# EAGLE library part BC08J (library dec-con)
BC08J compatible bus connector
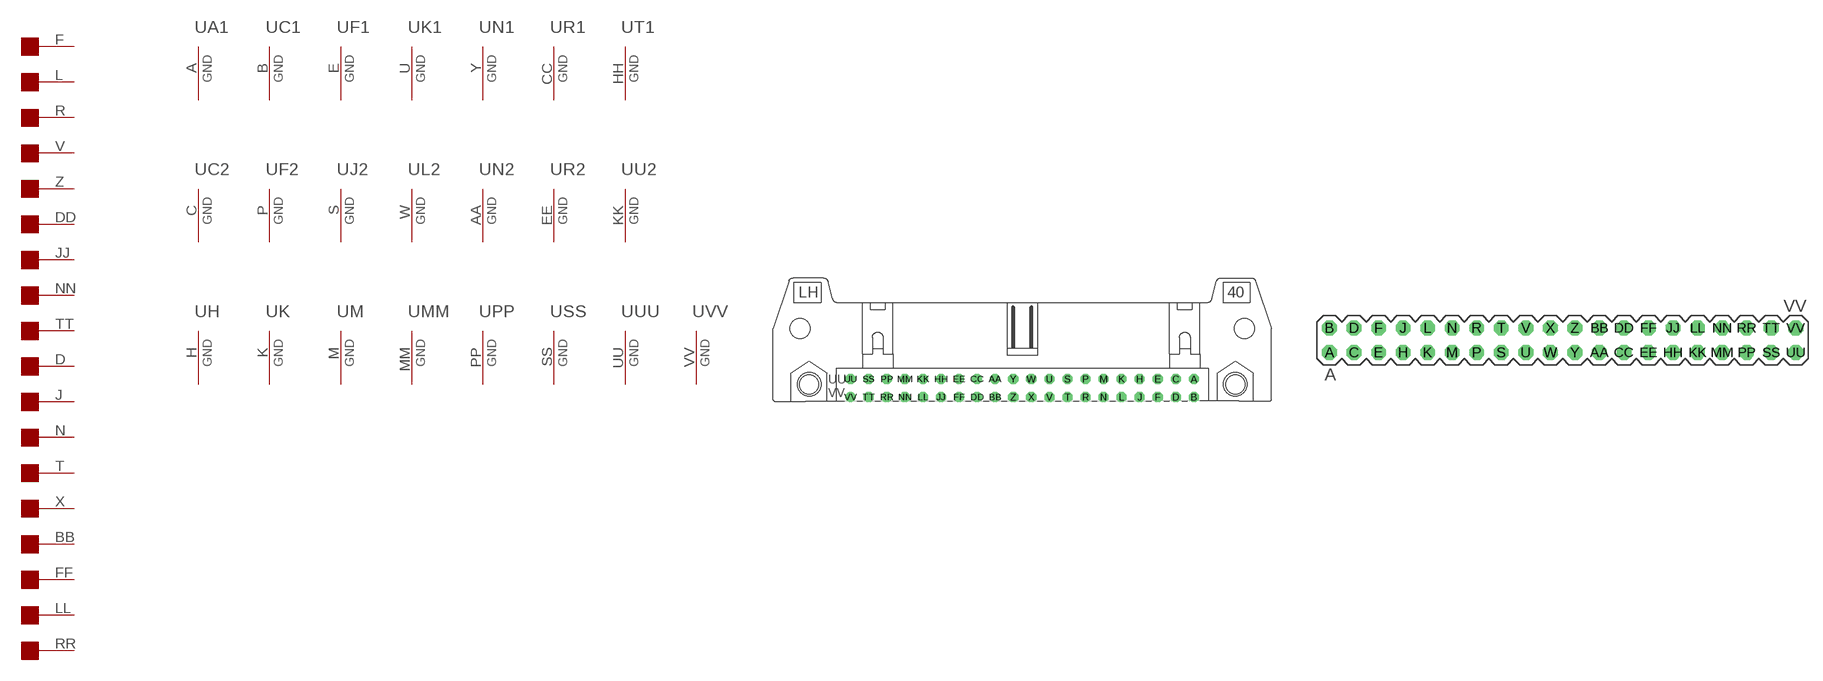
[diagram p35: symbol with the pads of DEC40PINH; footprints DEC40PINH, DEC40PINV]

Designator prefix -; gates D2=EDGE-RIGHT E2=EDGE-RIGHT H2=EDGE-RIGHT K2=EDGE-RIGHT M2=EDGE-RIGHT P2=EDGE-RIGHT S2=EDGE-RIGHT T2=EDGE-RIGHT V2=EDGE-RIGHT B1=EDGE-RIGHT D1=EDGE-RIGHT E1=EDGE-RIGHT H1=EDGE-RIGHT J1=EDGE-RIGHT L1=EDGE-RIGHT M1=EDGE-RIGHT P1=EDGE-RIGHT S1=EDGE-RIGHT A1=GND C1=GND F1=GND K1=GND N1=GND R1=GND T1=GND C2=GND F2=GND J2=GND L2=GND N2=GND R2=GND U2=GND H=GND K=GND M=GND MM=GND PP=GND SS=GND UU=GND VV=GND

## BC08JH  [DEC40PINH]
A  A1:GND  pwr
AA  N2:GND  pwr
B  C1:GND  pwr
BB  L1:1  pas
C  C2:GND  pwr
CC  R1:GND  pwr
D  B1:1  pas
DD  P2:1  pas
E  F1:GND  pwr
EE  R2:GND  pwr
F  D2:1  pas
FF  M1:1  pas
H  H:GND  pwr
HH  T1:GND  pwr
J  D1:1  pas
JJ  S2:1  pas
K  K:GND  pwr
KK  U2:GND  pwr
L  E2:1  pas
LL  P1:1  pas
M  M:GND  pwr
MM  MM:GND  pwr
N  E1:1  pas
NN  T2:1  pas
P  F2:GND  pwr
PP  PP:GND  pwr
R  H2:1  pas
RR  S1:1  pas
S  J2:GND  pwr
SS  SS:GND  pwr
T  H1:1  pas
TT  V2:1  pas
U  K1:GND  pwr
UU  UU:GND  pwr
V  K2:1  pas
VV  VV:GND  pwr
W  L2:GND  pwr
X  J1:1  pas
Y  N1:GND  pwr
Z  M2:1  pas

## BC08J  [DEC40PINV]
Pads as for DEC40PINH

## Footprint DEC40PINH (pad centres in mm)
CONNECTOR
drill 0.914 octagon: A 24.13,1.27; AA -3.81,1.27; B 24.13,-1.27; BB -3.81,-1.27; C 21.59,1.27; CC -6.35,1.27; D 21.59,-1.27; DD -6.35,-1.27; E 19.05,1.27; EE -8.89,1.27; F 19.05,-1.27; FF -8.89,-1.27; H 16.51,1.27; HH -11.43,1.27; J 16.51,-1.27; JJ -11.43,-1.27; K 13.97,1.27; KK -13.97,1.27; L 13.97,-1.27; LL -13.97,-1.27; M 11.43,1.27; MM -16.51,1.27; N 11.43,-1.27; NN -16.51,-1.27; P 8.89,1.27; PP -19.05,1.27; R 8.89,-1.27; RR -19.05,-1.27; S 6.35,1.27; SS -21.59,1.27; T 6.35,-1.27; TT -21.59,-1.27; U 3.81,1.27; UU -24.13,1.27; V 3.81,-1.27; W 1.27,1.27; X 1.27,-1.27; Y -1.27,1.27; Z -1.27,-1.27
drill 0.914 round: VV -24.13,-1.27
hole 3.302 at -29.972,0.533
hole 3.302 at 29.972,0.533

## Footprint DEC40PINV (pad centres in mm)
PIN HEADER
drill 1.016 octagon: A -24.13,-1.27; AA 3.81,-1.27; B -24.13,1.27; BB 3.81,1.27; C -21.59,-1.27; CC 6.35,-1.27; D -21.59,1.27; DD 6.35,1.27; E -19.05,-1.27; EE 8.89,-1.27; F -19.05,1.27; FF 8.89,1.27; H -16.51,-1.27; HH 11.43,-1.27; J -16.51,1.27; JJ 11.43,1.27; K -13.97,-1.27; KK 13.97,-1.27; L -13.97,1.27; LL 13.97,1.27; M -11.43,-1.27; MM 16.51,-1.27; N -11.43,1.27; NN 16.51,1.27; P -8.89,-1.27; PP 19.05,-1.27; R -8.89,1.27; RR 19.05,1.27; S -6.35,-1.27; SS 21.59,-1.27; T -6.35,1.27; TT 21.59,1.27; U -3.81,-1.27; UU 24.13,-1.27; V -3.81,1.27; VV 24.13,1.27; W -1.27,-1.27; X -1.27,1.27; Y 1.27,-1.27; Z 1.27,1.27